# Altium footprint library station_de_charge_PcbLib.PcbLib: 38 footprints (part 2 of 3)
Each footprint in its own frame and in the unit in brackets; x right, y up, seen from the top. Pads: shape width x height; smd on the part's side, far side on the other; paste and mask are expansions set on the pad; w line width, h text height; cw(c..) or ccw(c..) is an arc to the next point about the centre after c.
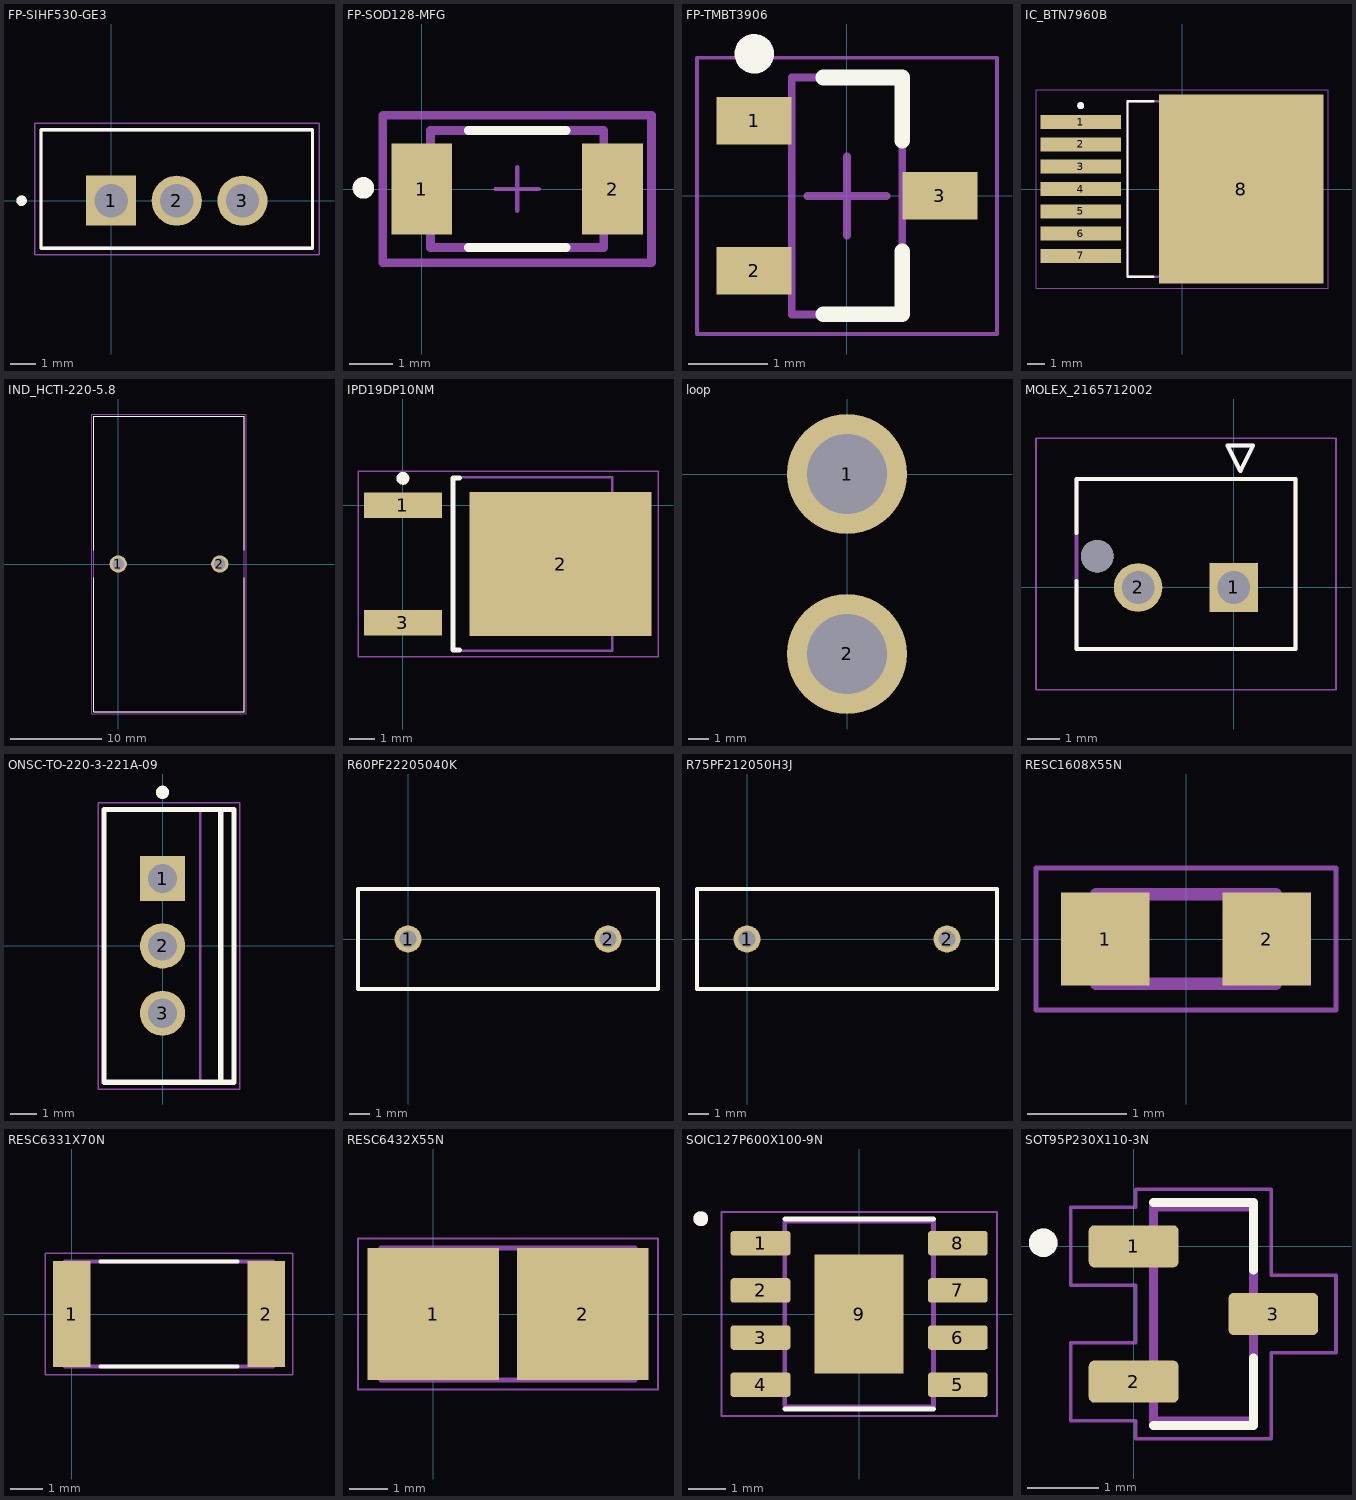
[diagram p1: the footprints below, top view; thin cyan lines are the x and y axes]

## FP-SIHF530-GE3 [mm]
pads (3):
  rect 1.935x1.935 hole 1.29: 1(0,0)
  round 1.935 hole 1.29: 2(2.54,0) 3(5.08,0)
Top Overlay:
  circle w0.2: c-3.46,0 r0.1
  lines w0.127: -2.71,-1.843 -2.71,2.748 7.79,2.748 7.79,-1.843 -2.71,-1.843
Mechanical 13:
  circle w0.2: c-3.46,0 r0.1
  lines w0.127: -2.71,-1.843 -2.71,2.748 7.79,2.748 7.79,-1.843 -2.71,-1.843
Mechanical 15:
  lines w0.05: -2.96,-2.093 -2.96,2.997 8.04,2.997 8.04,-2.093 -2.96,-2.093
3D body "step_temp.STEP": height 20.2, standoff -10.59, extent -2.71,-1.843 7.79,2.748

## FP-SOD128-MFG [mm]
pads (2):
  rect 1.4x2.1 smd paste-1000 mask+0: 1(0,0) 2(4.4,0)
Top Overlay:
  circle w0.25: c-1.35,0.025 r0.125
  lines w0.2: 1.075,-1.35 3.325,-1.35 ; 1.075,1.35 3.325,1.35
Top Paste:
  rectangle: -0.6,-0.95 0.6,0.95
  rectangle: 3.8,-0.95 5,0.95
Mechanical 5:
  lines w0.2: -0.9,-1.7 5.3,-1.7 5.3,1.7 -0.9,1.7 -0.9,-1.7
  text ".Designator" at 2.2,0.188 h1
Mechanical 13:
  lines w0.2: 0.2,-1.35 4.2,-1.35 4.2,1.35 0.2,1.35 0.2,-1.35
Mechanical 15:
  lines w0.2: -0.9,-1.7 5.3,-1.7 5.3,1.7 -0.9,1.7 -0.9,-1.7
Mechanical 16:
  lines w0.1: 1.7,0 2.7,0 ; 2.2,-0.5 2.2,0.5
3D body "Diode_Nexperia_PMEG40T50EPX_eec.STEP": height 0.25, standoff 0, extent -0.9,-1.7 5.3,1.7

## FP-TMBT3906 [mm] "SOT23, 3-Leads, Body 2,90x2,40mm, Pitch 0,95mm, IPC Medium Density"
height 1
pads (3):
  rect 0.95x0.6 smd: 1(-1.175,0.95) 2(-1.175,-0.95) 3(1.175,0)
Top Overlay:
  circle w0.25: c-1.175,1.8 r0.125
  lines w0.2: -0.3,-1.5 0.7,-1.5 0.7,-0.7 ; -0.3,1.5 0.7,1.5 0.7,0.7
Top Assembly:
  lines w0.1: -0.7,-1.5 0.7,-1.5 0.7,1.5 -0.7,1.5 -0.7,-1.5
Mechanical 15:
  lines w0.05: -1.9,-1.75 1.9,-1.75 1.9,1.75 -1.9,1.75 -1.9,-1.75
  lines w0.1: -0.5,0 0.5,0 ; 0,-0.5 0,0.5
3D body: height 1, standoff 0, extent -0.7,-1.5 0.7,1.5

## IC_BTN7960B [mm]
pads (8):
  rect 4.6x0.8 smd: 1(-5.775,3.81) 2(-5.775,2.54) 3(-5.775,1.27) 4(-5.775,0) 5(-5.775,-1.27) 6(-5.775,-2.54) 7(-5.775,-3.81)
  rect 9.4x10.8 smd paste-6: 8(3.375,0)
Top Overlay:
  circle w0.2: c-5.775,4.75 r0.1
  lines w0.127: -1.639,-5 -3.105,-5 -3.105,5 -1.639,5
Top Paste:
  region: 0.26,-5.155 -1.03,-5.155 -1.03,-3.845 0.26,-3.845
  region: 0.26,-3.355 -1.03,-3.355 -1.03,-2.045 0.26,-2.045
  region: 0.26,-1.555 -1.03,-1.555 -1.03,-0.245 0.26,-0.245
  region: 0.26,3.845 -1.03,3.845 -1.03,5.155 0.26,5.155
  region: 0.26,2.045 -1.03,2.045 -1.03,3.355 0.26,3.355
  region: 0.26,0.245 -1.03,0.245 -1.03,1.555 0.26,1.555
  region: 2.14,-5.155 0.85,-5.155 0.85,-3.845 2.14,-3.845
  region: 2.14,-3.355 0.85,-3.355 0.85,-2.045 2.14,-2.045
  region: 2.14,-1.555 0.85,-1.555 0.85,-0.245 2.14,-0.245
  region: 2.14,3.845 0.85,3.845 0.85,5.155 2.14,5.155
  region: 2.14,2.045 0.85,2.045 0.85,3.355 2.14,3.355
  region: 2.14,0.245 0.85,0.245 0.85,1.555 2.14,1.555
  region: 7.78,-5.155 6.49,-5.155 6.49,-3.845 7.78,-3.845
  region: 7.78,-3.355 6.49,-3.355 6.49,-2.045 7.78,-2.045
  region: 7.78,-1.555 6.49,-1.555 6.49,-0.245 7.78,-0.245
  region: 7.78,3.845 6.49,3.845 6.49,5.155 7.78,5.155
  region: 7.78,2.045 6.49,2.045 6.49,3.355 7.78,3.355
  region: 7.78,0.245 6.49,0.245 6.49,1.555 7.78,1.555
  region: 5.9,-5.155 4.61,-5.155 4.61,-3.845 5.9,-3.845
  region: 5.9,-3.355 4.61,-3.355 4.61,-2.045 5.9,-2.045
  region: 5.9,-1.555 4.61,-1.555 4.61,-0.245 5.9,-0.245
  region: 5.9,3.845 4.61,3.845 4.61,5.155 5.9,5.155
  region: 5.9,2.045 4.61,2.045 4.61,3.355 5.9,3.355
  region: 5.9,0.245 4.61,0.245 4.61,1.555 5.9,1.555
  region: 4.02,-5.155 2.73,-5.155 2.73,-3.845 4.02,-3.845
  region: 4.02,-3.355 2.73,-3.355 2.73,-2.045 4.02,-2.045
  region: 4.02,-1.555 2.73,-1.555 2.73,-0.245 4.02,-0.245
  region: 4.02,3.845 2.73,3.845 2.73,5.155 4.02,5.155
  region: 4.02,2.045 2.73,2.045 2.73,3.355 4.02,3.355
  region: 4.02,0.245 2.73,0.245 2.73,1.555 4.02,1.555
Mechanical 13:
  circle w0.2: c-5.775,4.75 r0.1
  lines w0.127: -3.105,-5 -3.105,5 6.155,5 6.155,-5 -3.105,-5
Mechanical 15:
  lines w0.05: -8.325,-5.65 -8.325,5.65 8.325,5.65 8.325,-5.65 -8.325,-5.65

## IND_HCTI-220-5.8 [mil]
pads (2):
  round 75 hole 50: 1(0,0) 2(440,0)
Top Overlay:
  lines w5: -105,-60 -105,-640 545,-640 545,-60 ; -105,60 -105,640 545,640 545,60
Mechanical 13:
  lines w5: -105,-640 -105,640 545,640 545,-640 -105,-640
Mechanical 15:
  lines w1.97: -114.84,-649.84 -114.84,649.84 554.84,649.84 554.84,-649.84 -114.84,-649.84

## IPD19DP10NM [mm] "D-PAK, 3-Pads, Body 6,21x6,73mm (max), IPC Medium Density"
height 2.41
pads (3):
  rect 3.05x1 smd: 1(0,0) 3(0,-4.58)
  rect 7.1x5.6 smd: 2(6.15,-2.29)
Top Overlay:
  circle w0.25: c0,1.05 r0.125
  lines w0.2: 2.2,-5.64 1.95,-5.64 1.95,1.06 2.2,1.06
Mechanical 13:
  lines w0.1: 1.95,-5.665 8.17,-5.665 8.17,1.085 1.95,1.085 1.95,-5.665
Mechanical 15:
  lines w0.05: -1.75,-5.915 9.95,-5.915 9.95,1.335 -1.75,1.335 -1.75,-5.915
  lines w0.1: 3.6,-2.29 4.6,-2.29 ; 4.1,-2.79 4.1,-1.79
3D body: height 2.41, standoff 0, extent 1.95,-5.665 8.17,1.085

## loop [mm]
pads (2):
  round 6 hole 4: 1(0,0) 2(0,-9)

## MOLEX_2165712002 [mm]
height 9.91
pads (3):
  rect 1.52x1.52 hole 1.02 mask+0.076: 1(0,0)
  round 1.52 hole 1.02 mask+0.076: 2(-3,0)
  round 1.02 hole 1.02 unplated mask+0.076: ""(-4.28,0.98)
Top Overlay:
  lines w0.127: -4.925,0.2 -4.925,-1.93 1.925,-1.93 1.925,3.4 -4.925,3.4 -4.925,1.7 ; -0.2,4.45 0.2,3.65 0.6,4.45 -0.2,4.45
Mechanical 13:
  lines w0.127: -4.925,-1.93 -4.925,3.4 1.925,3.4 1.925,-1.93 -4.925,-1.93 ; -0.2,4.45 0.2,3.65 0.6,4.45 -0.2,4.45
Mechanical 15:
  lines w0.05: -6.195,-3.2 -6.195,4.67 3.195,4.67 3.195,-3.2 -6.195,-3.2

## ONSC-TO-220-3-221A-09 [mm] "FM, 3-Leads, Body 10.3x4.85mm, Pitch 2.54mm"
height 19.85
pads (3):
  rect 1.7x1.7 hole 1.1: 1(0,2.54)
  round 1.7 hole 1.1: 2(0,0) 3(0,-2.54)
Top Overlay:
  circle w0.25: c0,5.8 r0.125
  lines w0.2: 2.195,-5.15 2.195,5.15 ; -2.205,-5.15 2.695,-5.15 2.695,5.15 -2.205,5.15 -2.205,-5.15
Mechanical 13:
  lines w0.1: 1.42,-5.15 1.42,5.15 ; -2.18,-5.15 -2.18,5.15 2.67,5.15 2.67,-5.15 -2.18,-5.15
Mechanical 15:
  lines w0.05: -2.43,-5.4 -2.43,5.4 2.92,5.4 2.92,-5.4 -2.43,-5.4
  lines w0.1: -0.5,0 0.5,0 ; 0,-0.5 0,0.5
3D body: height 2.8, standoff 0, extent -0.25,1.87 0.25,3.21
3D body: height 0, standoff -1.6, extent -0.25,2.15 0.25,2.93
3D body: height 2.8, standoff 0, extent -0.25,-0.67 0.25,0.67
3D body: height 0, standoff -1.6, extent -0.25,-0.39 0.25,0.39
3D body: height 2.8, standoff 0, extent -0.25,-3.21 0.25,-1.87
3D body: height 0, standoff -1.6, extent -0.25,-2.93 0.25,-2.15
3D body: height 13.65, standoff 2.8, extent -2.18,-5.15 2.67,5.15
3D body: height 15.13, standoff 13.65, extent 1.42,-4.975 2.67,4.975
3D body: height 15.17, standoff 15.13, extent 1.42,0.376 2.67,4.975
3D body: height 15.17, standoff 15.13, extent 1.42,-4.975 2.67,-0.376
3D body: height 18.98, standoff 18.94, extent 1.42,0.376 2.67,4.975
3D body: height 18.98, standoff 18.94, extent 1.42,-4.975 2.67,-0.376
3D body: height 15.28, standoff 15.16, extent 1.42,0.737 2.67,4.975
3D body: height 15.28, standoff 15.16, extent 1.42,-4.975 2.67,-0.737
3D body: height 18.94, standoff 18.83, extent 1.42,0.737 2.67,4.975
3D body: height 18.94, standoff 18.83, extent 1.42,-4.975 2.67,-0.737
3D body: height 15.45, standoff 15.27, extent 1.42,1.069 2.67,4.975
3D body: height 15.45, standoff 15.27, extent 1.42,-4.975 2.67,-1.069
3D body: height 18.83, standoff 18.65, extent 1.42,1.069 2.67,4.975
3D body: height 18.83, standoff 18.65, extent 1.42,-4.975 2.67,-1.069
3D body: height 15.69, standoff 15.45, extent 1.42,1.361 2.67,4.975
3D body: height 15.69, standoff 15.45, extent 1.42,-4.975 2.67,-1.361
3D body: height 18.66, standoff 18.41, extent 1.42,1.361 2.67,4.975
3D body: height 18.66, standoff 18.41, extent 1.42,-4.975 2.67,-1.361
3D body: height 15.99, standoff 15.69, extent 1.42,1.601 2.67,4.975
3D body: height 15.99, standoff 15.69, extent 1.42,-4.975 2.67,-1.601
3D body: height 18.42, standoff 18.12, extent 1.42,1.601 2.67,4.975
3D body: height 18.42, standoff 18.12, extent 1.42,-4.975 2.67,-1.601
3D body: height 16.32, standoff 15.98, extent 1.42,1.778 2.67,4.975
3D body: height 16.32, standoff 15.98, extent 1.42,-4.975 2.67,-1.778
3D body: height 18.12, standoff 17.79, extent 1.42,1.778 2.67,4.975
3D body: height 18.12, standoff 17.79, extent 1.42,-4.975 2.67,-1.778
3D body: height 16.68, standoff 16.31, extent 1.42,1.888 2.67,4.975
3D body: height 16.68, standoff 16.31, extent 1.42,-4.975 2.67,-1.888
3D body: height 17.79, standoff 17.43, extent 1.42,1.888 2.67,4.975
3D body: height 17.79, standoff 17.43, extent 1.42,-4.975 2.67,-1.888
3D body: height 17.05, standoff 16.67, extent 1.42,1.925 2.67,4.975
3D body: height 17.05, standoff 16.67, extent 1.42,-4.975 2.67,-1.925
3D body: height 17.43, standoff 17.05, extent 1.42,1.925 2.67,4.975
3D body: height 17.43, standoff 17.05, extent 1.42,-4.975 2.67,-1.925
3D body: height 19.85, standoff 18.98, extent 1.42,-4.975 2.67,4.975

## R60PF22205040K [mm]
pads (2):
  round 1.35 hole 0.85: 1(0,0) 2(10,0)
Top Overlay:
  lines w0.2: -2.5,-2.5 -2.5,2.5 0,2.5 10,2.5 12.5,2.5 12.5,-2.5 10,-2.5 0,-2.5 -2.5,-2.5

## R75PF212050H3J [mm]
pads (2):
  round 1.35 hole 0.85: 1(0,0) 2(10,0)
Top Overlay:
  lines w0.2: -2.5,-2.5 -2.5,2.5 0,2.5 10,2.5 12.5,2.5 12.5,-2.5 10,-2.5 0,-2.5 -2.5,-2.5

## RESC1608X55N [mm]
pads (2):
  rect 0.89x0.93 smd: 1(-0.814,0) 2(0.814,0)
Mechanical 13:
  lines w0.127: -0.9,-0.45 -0.9,0.45 0.9,0.45 0.9,-0.45 -0.9,-0.45
Mechanical 15:
  lines w0.05: -1.508,-0.715 -1.508,0.715 1.508,0.715 1.508,-0.715 -1.508,-0.715
3D body "SFR03EZPJ102.STEP": height 0.56, standoff 0.01, extent -0.8,-0.4 0.8,0.4

## RESC6331X70N [mm]
pads (2):
  rect 1.15x3.27 smd: 1(0,0) 2(6.026,0)
Top Overlay:
  lines w0.127: 0.893,-1.63 5.133,-1.63 ; 0.893,1.63 5.133,1.63
Mechanical 13:
  lines w0.127: -0.207,-1.63 -0.207,1.63 6.233,1.63 6.233,-1.63 -0.207,-1.63
Mechanical 15:
  lines w0.05: -0.827,-1.885 -0.827,1.885 6.853,1.885 6.853,-1.885 -0.827,-1.885

## RESC6432X55N [mm]
pads (2):
  rect 3.45x3.46 smd: 1(0,0) 2(3.912,0)
Mechanical 13:
  lines w0.127: -1.374,-1.73 5.286,-1.73 5.286,1.73 -1.374,1.73 -1.374,-1.73
Mechanical 15:
  lines w0.05: -1.975,-1.981 5.887,-1.981 5.887,1.981 -1.975,1.981 -1.975,-1.981
3D body "GMR100HTCFIR220.STEP": height 0.56, standoff 0.01, extent -1.244,-1.6 5.156,1.6

## SOIC127P600X100-9N [mm]
pads (9):
  rrect25% 1.61x0.66 smd: 1(-2.655,1.905) 2(-2.655,0.635) 3(-2.655,-0.635) 4(-2.655,-1.905) 5(2.655,-1.905) 6(2.655,-0.635) 7(2.655,0.635) 8(2.655,1.905)
  rect 2.4x3.2 smd paste-3: 9(0,0)
Top Overlay:
  circle w0.2: c-4.265,2.565 r0.1
  lines w0.127: -2,-2.555 2,-2.555 ; -2,2.555 2,2.555
Top Paste:
  region: -0.135,0.135 -0.935,0.135 -0.935,1.335 -0.135,1.335
  region: -0.135,-1.335 -0.935,-1.335 -0.935,-0.135 -0.135,-0.135
  region: 0.935,-1.335 0.135,-1.335 0.135,-0.135 0.935,-0.135
  region: 0.935,0.135 0.135,0.135 0.135,1.335 0.935,1.335
Mechanical 13:
  circle w0.2: c-4.265,2.565 r0.1
  lines w0.127: -2,-2.5 2,-2.5 2,2.5 -2,2.5 -2,-2.5
Mechanical 15:
  lines w0.05: -3.71,-2.75 3.71,-2.75 3.71,2.75 -3.71,2.75 -3.71,-2.75

## SOT95P230X110-3N [mm]
pads (3):
  rrect25% 1.26x0.59 smd: 1(0,0) 2(0,-1.9) 3(1.96,-0.95)
Top Overlay:
  circle w0.2: c-1.27,0.05 r0.1
  lines w0.127: 0.28,-2.515 1.68,-2.515 1.68,-1.565 ; 0.28,0.615 1.68,0.615 1.68,-0.335
Mechanical 13:
  circle w0.2: c-1.27,0.05 r0.1
  lines w0.127: 0.28,-2.45 0.28,0.55 1.68,0.55 1.68,-2.45 0.28,-2.45
Mechanical 15:
  lines w0.05: -0.88,-2.445 -0.88,-1.355 0.03,-1.355 0.03,-0.545 -0.88,-0.545 -0.88,0.545 0.03,0.545 0.03,0.8 1.93,0.8 1.93,-0.405 2.84,-0.405 2.84,-1.495 1.93,-1.495 1.93,-2.7 0.03,-2.7 0.03,-2.445 -0.88,-2.445
3D body "step_temp.STEP": height 1.1, standoff 0, extent -0.17,-2.4 2.13,0.5